# EAGLE library part TC2070-IDC (library TagConnect)
Tag-Connect In Circuit Programming & Debug Cable 14 Pin http://www.tag-connect.com
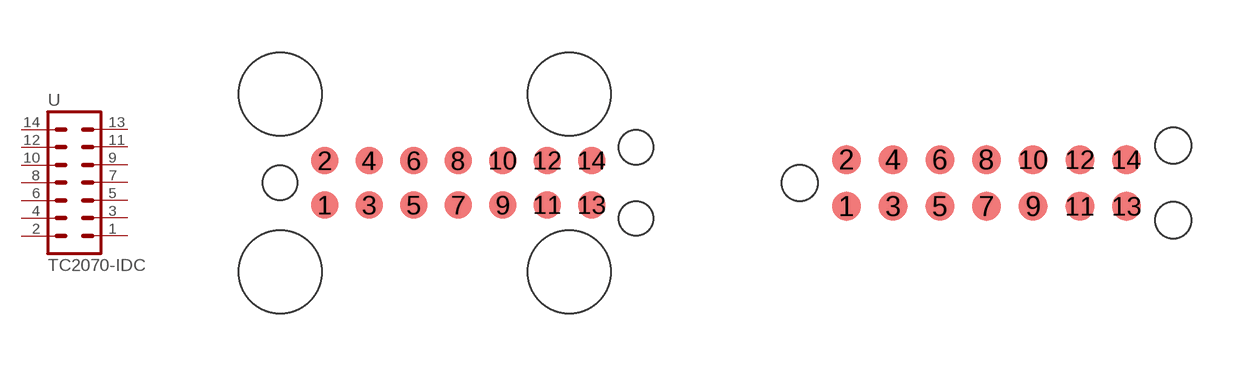
[diagram p2: symbol with the pads of TC2070-IDC; footprints TC2070-IDC, TC2070-IDC-NL]

Designator prefix -

## TC2070-IDC  [TC2070-IDC]
1  1  pas
2  2  pas
3  3  pas
4  4  pas
5  5  pas
6  6  pas
7  7  pas
8  8  pas
9  9  pas
10  10  pas
11  11  pas
12  12  pas
13  13  pas
14  14  pas

## TC2070-IDC-NL  [TC2070-IDC-NL]
Pads as for TC2070-IDC

## Footprint TC2070-IDC (pad centres in mm)
smd 0.787 x 0.787: 1 -3.81,-0.635; 2 -3.81,0.635; 3 -2.54,-0.635; 4 -2.54,0.635; 5 -1.27,-0.635; 6 -1.27,0.635; 7 0,-0.635; 8 0,0.635; 9 1.27,-0.635; 10 1.27,0.635; 11 2.54,-0.635; 12 2.54,0.635; 13 3.81,-0.635; 14 3.81,0.635
hole 0.991 at -5.08,0
hole 0.991 at 5.08,1.016
hole 0.991 at 5.08,-1.016
hole 2.375 at -5.08,2.54
hole 2.375 at -5.08,-2.54
hole 2.375 at 3.175,2.54
hole 2.375 at 3.175,-2.54

## Footprint TC2070-IDC-NL (pad centres in mm)
smd 0.787 x 0.787: 1 -3.81,-0.635; 2 -3.81,0.635; 3 -2.54,-0.635; 4 -2.54,0.635; 5 -1.27,-0.635; 6 -1.27,0.635; 7 0,-0.635; 8 0,0.635; 9 1.27,-0.635; 10 1.27,0.635; 11 2.54,-0.635; 12 2.54,0.635; 13 3.81,-0.635; 14 3.81,0.635
hole 0.991 at -5.08,0
hole 0.991 at 5.08,1.016
hole 0.991 at 5.08,-1.016